# EAGLE library part BDXXHC5WEFJ (library BDxxHC5WEFJ)
1.5A LDO Regulator
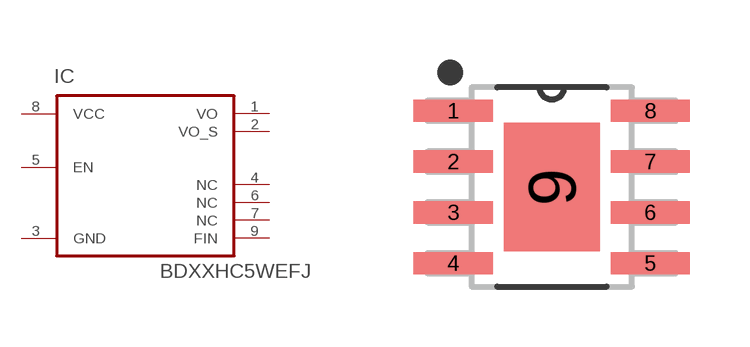
[diagram p0: symbol with the pads of HTSOP-J8; footprint HTSOP-J8]

Designator prefix IC

## BDXXHC5WEFJ  [HTSOP-J8]
1  VO  out
2  VO_S  out
3  GND  pas
4  NC  nc
5  EN  in
6  NC  nc
7  NC  nc
8  VCC  in
9  FIN  sup

## Footprint HTSOP-J8 (pad centres in mm)
smd 1.981 x 0.559: 1 -2.464,1.905; 2 -2.464,0.635; 3 -2.464,-0.635; 4 -2.464,-1.905; 5 2.464,-1.905; 6 2.464,-0.635; 7 2.464,0.635; 8 2.464,1.905
smd 2.4 x 3.2: 9 0,0